# EAGLE library part PICO_EX_HOLES (library RaspberryPi-Pico)
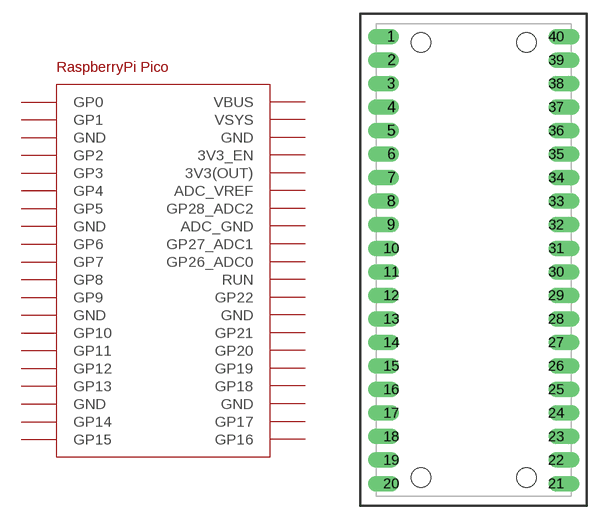
[diagram p12: symbol with the pads of RPI_PICO_EX_HOLES; footprint RPI_PICO_EX_HOLES]

Designator prefix U

## PICO_EX_HOLES (DATASHEET: https://datasheets.raspberrypi.org/pico/pico_datasheet.pdf; DESIGNER: MingwX007; GITHUB: https://github.com/AmornthepYk; MANUFACTURER: RaspberryPi Pico; VALUE: None)  [RPI_PICO_EX_HOLES]
1  GP0
2  GP1
3  GND
4  GP2
5  GP3
6  GP4
7  GP5
8  GND
9  GP6
10  GP7
11  GP8
12  GP9
13  GND
14  GP10
15  GP11
16  GP12
17  GP13
18  GND
19  GP14
20  GP15
21  GP16
22  GP17
23  GND
24  GP18
25  GP19
26  GP20
27  GP21
28  GND
29  GP22
30  RUN
31  GP26_ADC0
32  GP27_ADC1
33  ADC_GND
34  GP28_ADC2
35  ADC_VREF
36  3V3(OUT)
37  3V3_EN
38  GND
39  VSYS
40  VBUS

## Footprint RPI_PICO_EX_HOLES (pad centres in mm)
drill 1.016 pad 1.676 offset: 1 -8.89,49.625; 2 -8.89,47.085; 3 -8.89,44.545; 4 -8.89,42.005; 5 -8.89,39.465; 6 -8.89,36.925; 7 -8.89,34.385; 8 -8.89,31.845; 9 -8.89,29.305; 10 -8.89,26.765; 11 -8.89,24.225; 12 -8.89,21.685; 13 -8.89,19.145; 14 -8.89,16.605; 15 -8.89,14.065; 16 -8.89,11.525; 17 -8.89,8.985; 18 -8.89,6.445; 19 -8.89,3.905; 20 -8.89,1.365; 21 8.89,1.365; 22 8.89,3.905; 23 8.89,6.445; 24 8.89,8.985; 25 8.89,11.525; 26 8.89,14.065; 27 8.89,16.605; 28 8.89,19.145; 29 8.89,21.685; 30 8.89,24.225; 31 8.89,26.765; 32 8.89,29.305; 33 8.89,31.845; 34 8.89,34.385; 35 8.89,36.925; 36 8.89,39.465; 37 8.89,42.005; 38 8.89,44.545; 39 8.89,47.085; 40 8.89,49.625
hole 2.1 at 5.7,2
hole 2.1 at 5.7,49
hole 2.1 at -5.7,49
hole 2.1 at -5.7,2